# Altium footprint library LM2596S-3.3.PcbLib: 1 footprints
Each footprint in its own frame and in the unit in brackets; x right, y up, seen from the top. Pads: shape width x height; smd on the part's side, far side on the other; paste and mask are expansions set on the pad; w line width, h text height; cw(c..) or ccw(c..) is an arc to the next point about the centre after c.
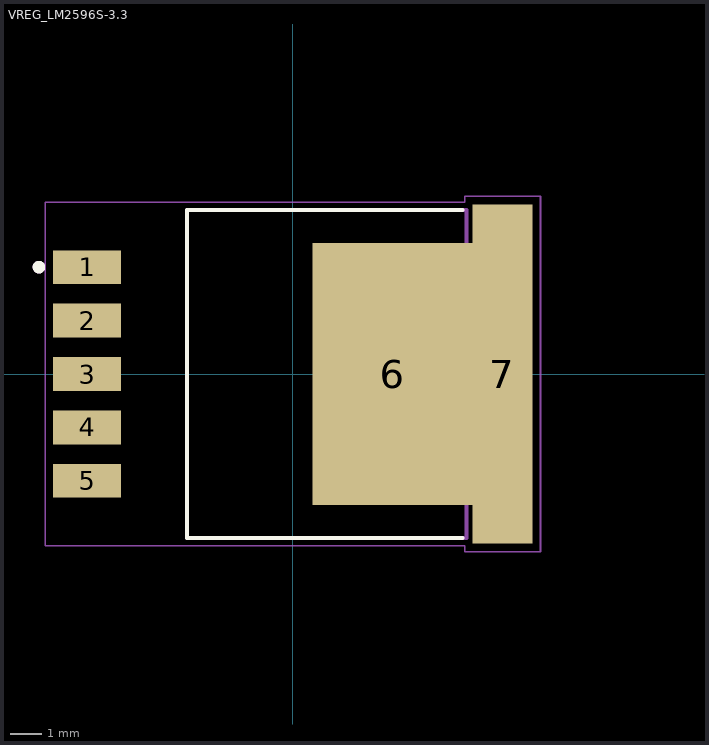
[diagram p0: the footprint, top view; thin cyan lines are the x and y axes]

## VREG_LM2596S-3.3 [mm]
pads (7):
  rect 2.16x1.07 smd: 1(-6.545,3.4) 2(-6.545,1.7) 3(-6.545,0) 4(-6.545,-1.7) 5(-6.545,-3.4)
  rect 5.08x8.33 smd paste-5: 6(3.175,0)
  rect 1.91x10.8 smd paste-6: 7(6.67,0)
Top Overlay:
  circle w0.2: c-8.075,3.4 r0.1
  lines w0.127: 5.402,-5.21 -3.37,-5.21 -3.37,5.21 5.402,5.21
Mechanical 13:
  circle w0.2: c-8.075,3.4 r0.1
  lines w0.127: -3.37,-5.21 5.53,-5.21 5.53,5.21 -3.37,5.21 -3.37,-5.21
Mechanical 15:
  lines w0.05: -7.88,-5.46 5.465,-5.46 5.465,-5.65 7.88,-5.65 7.88,5.65 5.465,5.65 5.465,5.46 -7.88,5.46 -7.88,-5.46
3D body "step_temp.STEP": height 4.65, standoff -0.15, extent -7.175,-5.08 7.175,5.08